# Altium footprint library IC.PcbLib: 67 footprints (part 1 of 5)
Each footprint in its own frame and in the unit in brackets; x right, y up, seen from the top. Pads: shape width x height; smd on the part's side, far side on the other; paste and mask are expansions set on the pad; w line width, h text height; cw(c..) or ccw(c..) is an arc to the next point about the centre after c.
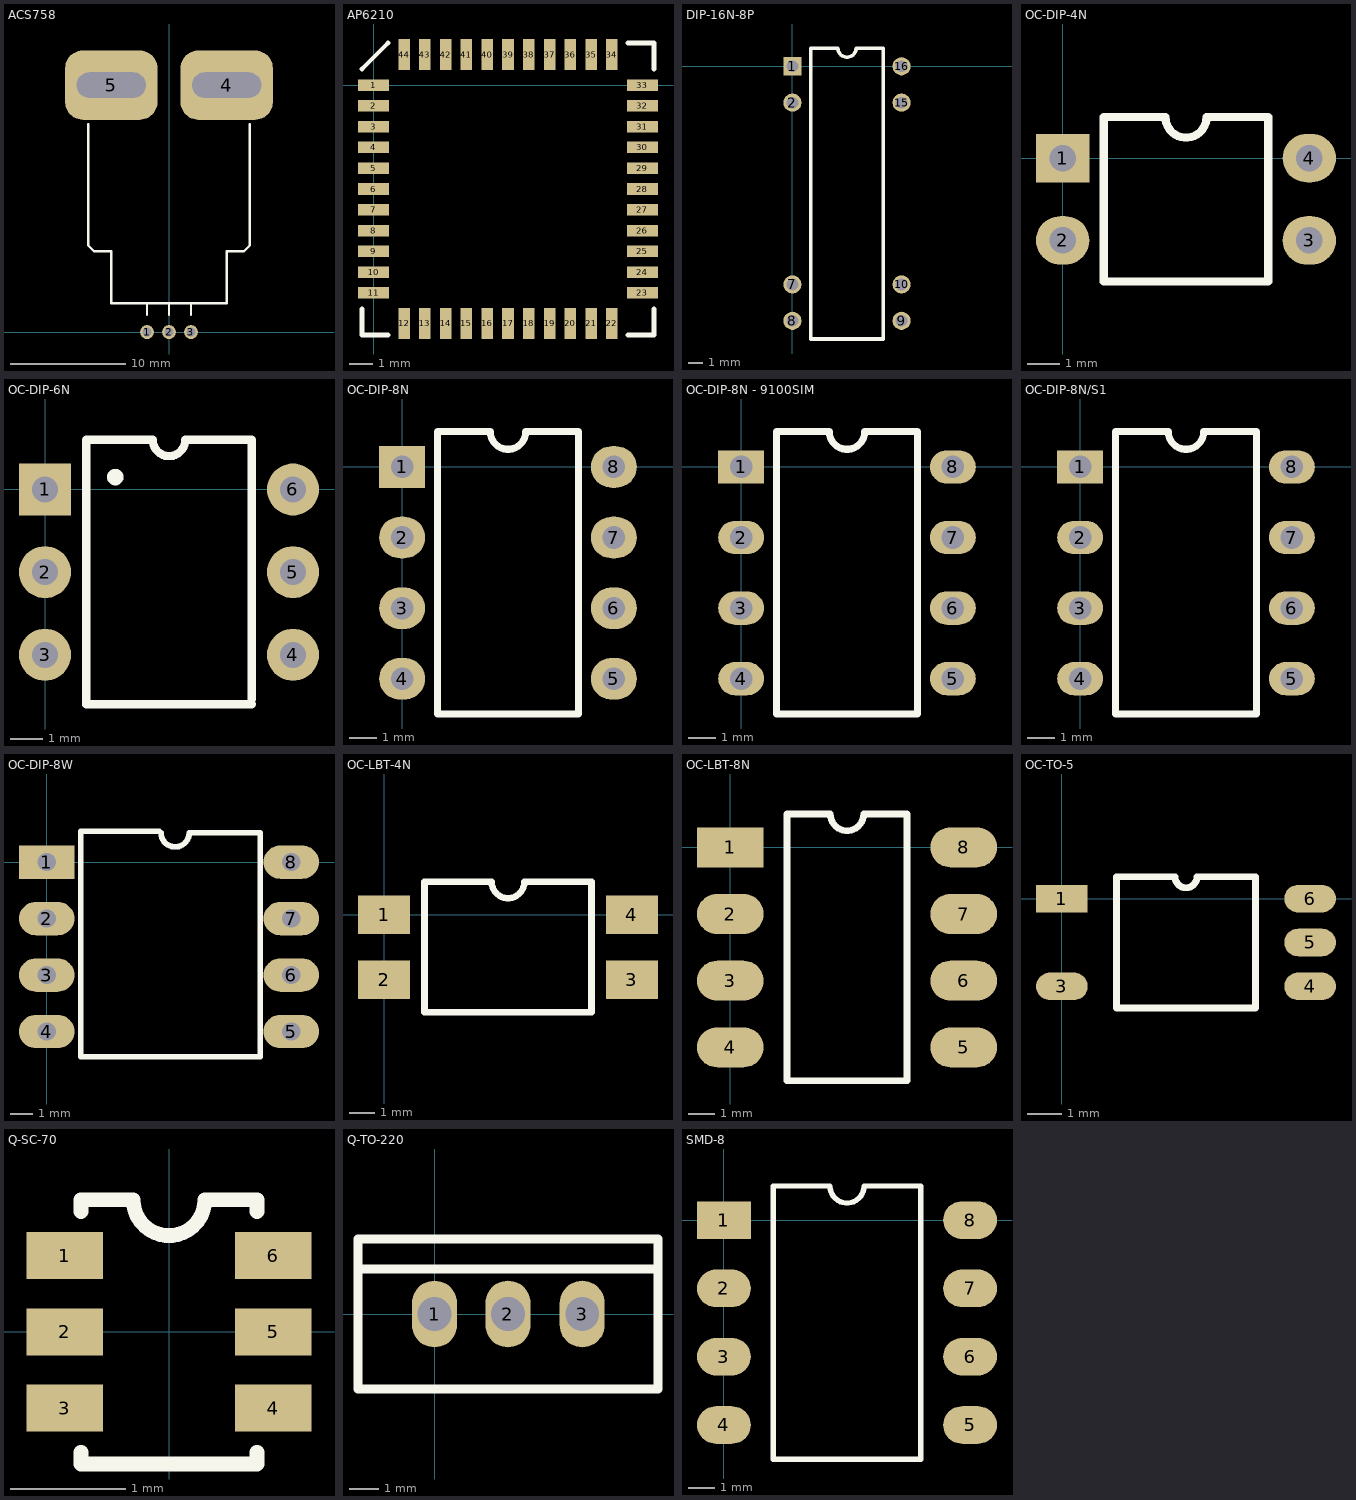
[diagram p0: the footprints below, top view; thin cyan lines are the x and y axes]

## ACS758 [mm]
pads (5):
  round 1.2 hole 0.8: 1(-1.905,0) 2(0,0) 3(1.905,0)
  rrect50% 8x6 hole 2.2 slot 6 at 0 deg: 4(5,21.4) 5(-5,21.4)
Top Overlay:
  lines w0.2: -7,18 -7,8 -7,7.5 -6.5,7 -5,7 -5,3 -5,2.5 5,2.5 5,3 5,7 6.5,7 7,7.5 7,8 7,18 ; -1.9,1.5 -1.9,2.5 ; 0,1.5 0,2.5 ; 1.9,1.5 1.9,2.5

## AP6210 [mm]
pads (44):
  rect 1.35x0.5 smd: 1(0,0) 2(0,-0.9) 3(0,-1.8) 4(0,-2.7) 5(0,-3.6) 6(0,-4.5) 7(0,-5.4) 8(0,-6.3) 9(0,-7.2) 10(0,-8.1) 11(0,-9) 23(11.65,-9) 24(11.65,-8.1) 25(11.65,-7.2) 26(11.65,-6.3) 27(11.65,-5.4) 28(11.65,-4.5) 29(11.65,-3.6) 30(11.65,-2.7) 31(11.65,-1.8) 32(11.65,-0.9) 33(11.65,0)
  rect 0.5x1.35 smd: 12(1.325,-10.325) 13(2.225,-10.325) 14(3.125,-10.325) 15(4.025,-10.325) 16(4.925,-10.325) 17(5.825,-10.325) 18(6.725,-10.325) 19(7.625,-10.325) 20(8.525,-10.325) 21(9.425,-10.325) 22(10.325,-10.325) 34(10.325,1.325) 35(9.425,1.325) 36(8.525,1.325) 37(7.625,1.325) 38(6.725,1.325) 39(5.825,1.325) 40(4.925,1.325) 41(4.025,1.325) 42(3.125,1.325) 43(2.225,1.325) 44(1.325,1.325)
Top Overlay:
  lines w0.2: -0.5,-9.7 -0.5,-10.825 0.625,-10.825 ; -0.5,0.7 0.625,1.825 ; 11.025,-10.825 12.15,-10.825 12.15,-9.7 ; 11.025,1.825 12.15,1.825 12.15,0.7 ; 0.625,1.825 0.625,1.825
3D body: height 1.5, standoff 0.1, extent -0.2,-10.5 11.9,1.5

## DIP-16N-8P [mil]
pads (8):
  rect 50x50 hole 32: 1(0,0)
  round 50 hole 32: 2(0,-100) 7(0,-600) 8(0,-700) 9(300,-700) 10(300,-600) 15(300,-100) 16(300,0)
Top Overlay:
  lines w10: 50,-750 50,50 125,50 ccw(c150,50) 175,50 250,50 250,-750 50,-750
3D body: height 157.48, standoff 0, extent 50,-750 250,51

## OC-DIP-4N [mil] "OC-DIP4"
pads (4):
  rect 65x59.06 hole 32: 1(0,0)
  oval 65x59.06 hole 32: 2(0,-100) 3(300,-100) 4(300,0)
Top Overlay:
  lines w10: 50,-150 250,-150 250,50 175,50 cw(c150,50) 125,50 50,50 50,-150
3D body: height 149.61, standoff 0, extent 50,-150 250,50

## OC-DIP-6N [mm]
pads (6):
  rect 1.6x1.6 hole 0.8: 1(0,0)
  round 1.6 hole 0.8: 2(0,-2.54) 3(0,-5.08) 4(7.62,-5.08) 5(7.62,-2.54) 6(7.62,0)
Top Overlay:
  circle w0.254: c2.159,0.381 r0.127
  lines w0.254: 1.266,-6.604 6.35,-6.604 ; 1.27,-6.605 1.27,1.525 ; 1.271,1.525 3.311,1.525 ccw(c3.811,1.525) 4.311,1.525 6.351,1.525 ; 6.35,-6.45 6.35,1.525
3D body: height 3.8, standoff 0, extent 1.266,-6.667 6.35,1.589

## OC-DIP-8N [mil] "OC-DIP8"
pads (8):
  rect 65x59.06 hole 32: 1(0,0)
  oval 65x59.06 hole 32: 2(0,-100) 3(0,-200) 4(0,-300) 5(300,-300) 6(300,-200) 7(300,-100) 8(300,0)
Top Overlay:
  lines w10: 50,-350 250,-350 250,50 175,50 cw(c150,50) 125,50 50,50 50,-350
3D body: height 149.61, standoff 0, extent 50,-350 250,50

## OC-DIP-8N - 9100SIM [mil] "OC-DIP8"
pads (8):
  rect 65x47.24 hole 32: 1(0,0)
  oval 65x47.24 hole 32: 2(0,-100) 3(0,-200) 4(0,-300) 5(300,-300) 6(300,-200) 7(300,-100) 8(300,0)
Top Overlay:
  lines w10: 50,-350 250,-350 250,50 175,50 cw(c150,50) 125,50 50,50 50,-350
3D body: height 149.61, standoff 0, extent 50,-350 250,50

## OC-DIP-8N/S1 [mil] "OC-DIP8-S"
pads (8):
  rect 65x47.24 hole 32: 1(0,0)
  oval 65x47.24 hole 32: 2(0,-100) 3(0,-200) 4(0,-300) 5(300,-300) 6(300,-200) 7(300,-100) 8(300,0)
Top Overlay:
  lines w10: 50,-350 250,-350 250,50 175,50 cw(c150,50) 125,50 50,50 50,-350
3D body: height 149.61, standoff 0, extent 50,-350 250,50

## OC-DIP-8W [mm] "OC-DIP8/W"
pads (8):
  rect 2.5x1.5 hole 0.813: 1(0,0)
  oval 2.5x1.5 hole 0.813: 2(0,-2.54) 3(0,-5.08) 4(0,-7.62) 5(11,-7.62) 6(11,-5.08) 7(11,-2.54) 8(11,0)
Top Overlay:
  lines w0.254: 5.057,1.398 1.527,1.398 1.527,-8.762 9.607,-8.762 9.607,1.27 ; 5.14,1.324 ccw(c5.775,1.324) 6.41,1.324 9.607,1.324
3D body: height 3.8, standoff 0, extent 1.524,-8.763 9.652,1.397

## OC-LBT-4N [mil] "Lead Bending Type"
pads (4):
  rect 80x59.06 smd: 1(0,0) 2(0,-100) 3(380,-100) 4(380,0)
Top Overlay:
  lines w10: 61.97,-150 61.97,50 165,50 ccw(c190,50) 215,50 318.03,50 318.03,-150 61.97,-150
3D body: height 149.61, standoff 0, extent 90,-155 290,45

## OC-LBT-8N [mil] "Lead Bending Type"
pads (8):
  rect 100x60 smd: 1(0,0)
  oval 100x60 smd: 2(0,-100) 3(0,-200) 4(0,-300) 5(350,-300) 6(350,-200) 7(350,-100) 8(350,0)
Top Overlay:
  lines w10: 85,-350 85,50 150,50 ccw(c175,50) 200,50 265,50 265,-350 85,-350
3D body: height 149.61, standoff 0, extent 75,-350 275,50

## OC-TO-5 [mm]
pads (5):
  rect 1.5x0.8 smd: 1(0,0)
  oval 1.5x0.8 smd: 3(0,-2.54) 4(7.2,-2.54) 5(7.2,-1.27) 6(7.2,0)
Top Overlay:
  lines w0.2: 1.585,-3.175 5.615,-3.175 5.615,0.635 3.918,0.635 cw(c3.6,0.635) 3.283,0.635 1.585,0.635 1.585,-3.175
3D body: height 2.5, standoff 0, extent 1.524,-3.175 5.588,0.635

## PLCC127P1498X1498X284-32N [mm] "PLCC, 32-Leads, Body 15.1x15.1mm (max), Pitch 1.270mm, IPC Medium Density"
height 2.84

## Q-SC-70 [mil]
pads (6):
  rect 26x16 smd: 1(-35.5,26) 2(-35.5,0) 3(-35.5,-26) 4(35.5,-26) 5(35.5,0) 6(35.5,26)
Top Overlay:
  lines w5: -30,-41 -30,-45 30,-45 30,-41 ; -30,41 -30,45 -12.21,45 ccw(c0,45) 12.21,45 30,45 30,41
3D body: height 43, standoff 0, extent -30,-45 30,45
3D body: height 5, standoff 0, extent -43,20 -28,32
3D body: height 5, standoff 0, extent -43,-6 -28,6
3D body: height 5, standoff 0, extent -43,-32 -28,-20
3D body: height 5, standoff 0, extent 28,-32 43,-20
3D body: height 5, standoff 0, extent 28,-6 43,6
3D body: height 5, standoff 0, extent 28,20 43,32

## Q-TO-220 [mil]
pads (3):
  oval 60x89 hole 45: 1(0,0) 2(98,0) 3(197,0)
Top Overlay:
  lines w12: -102,60 298,60 ; -102,-100 298,-100 298,100 -102,100 -102,-100
3D body: height 150, standoff -40, extent 177,-5 217,5
3D body: height 150, standoff -40, extent 78,-5 118,5
3D body: height 150, standoff -40, extent -20,-5 20,5
3D body: height 850, standoff 550, extent -100,60 300,100
3D body: height 550, standoff 150, extent -100,-80 300,100

## SMD-8 [mm]
pads (8):
  rect 2x1.4 smd: 1(0,0)
  oval 2x1.4 smd: 2(0,-2.54) 3(0,-5.08) 4(0,-7.62) 5(9.16,-7.62) 6(9.16,-5.08) 7(9.16,-2.54) 8(9.16,0)
Top Overlay:
  lines w0.2: 1.835,-8.89 1.835,1.27 3.945,1.27 ccw(c4.58,1.27) 5.215,1.27 7.325,1.27 7.325,-8.89 1.835,-8.89